# EAGLE library part 3X4KEYPAD (library SparkfunQwiicKeypad)
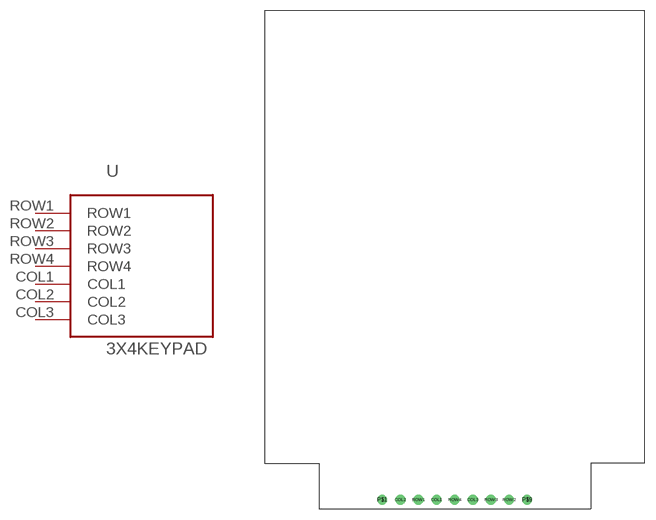
[diagram p0: symbol with the pads of 3X4KEYPAD; footprint 3X4KEYPAD]

Designator prefix -

## 3X4KEYPAD  [3X4KEYPAD]
COL1  COL1
COL2  COL2
COL3  COL3
ROW1  ROW1
ROW2  ROW2
ROW3  ROW3
ROW4  ROW4

## Footprint 3X4KEYPAD (pad centres in mm)
drill 0.85: COL1 24.13,-68.58; COL2 19.05,-68.58; COL3 29.21,-68.58; P$1 16.51,-68.58; P$9 36.83,-68.58; ROW1 21.59,-68.58; ROW2 34.29,-68.58; ROW3 31.75,-68.58; ROW4 26.67,-68.58